# EAGLE library part 623326235321 (library Wurth_Elektronik_Electromechanic_Board_to_Board_Connectors_rev16a)
WR-PHD 1.27mm Dual SMT Socket Header H=2.20mm,Bottom Entry, 26 Pins=>Code : Con_BTB_SHD_1.27_2_623326235321 <http://katalog.we-online.de/media/thumbs2/eican/thb_Con_BTB_SHD_1.27_2_6233xx235321_pf2.jpg> Details see: http://katalog.we-online.de/en/em/623_3xx_235_321 Created 2014-06-04, Karrer Zheng 2014 (C) Würth Elektronik
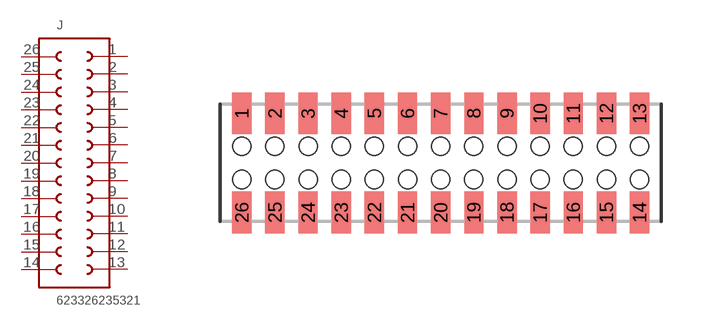
[diagram p314: symbol with the pads of 623326235321; footprint 623326235321]

Designator prefix J

## 623326235321  [623326235321]
1  1  pas
2  2  pas
3  3  pas
4  4  pas
5  5  pas
6  6  pas
7  7  pas
8  8  pas
9  9  pas
10  10  pas
11  11  pas
12  12  pas
13  13  pas
14  14  pas
15  15  pas
16  16  pas
17  17  pas
18  18  pas
19  19  pas
20  20  pas
21  21  pas
22  22  pas
23  23  pas
24  24  pas
25  25  pas
26  26  pas

## Footprint 623326235321 (pad centres in mm)
WR-PHD 1.27mm Dual SMT Socket Header H=2.20mm, Bottom Entry, 26 Pins
smd 0.74 x 1.6: 1 -7.62,1.9; 2 -6.35,1.9; 3 -5.08,1.9; 4 -3.81,1.9; 5 -2.54,1.9; 6 -1.27,1.9; 7 0,1.9; 8 1.27,1.9; 9 2.54,1.9; 10 3.81,1.9; 11 5.08,1.9; 12 6.35,1.9; 13 7.62,1.9; 14 7.62,-1.9; 15 6.35,-1.9; 16 5.08,-1.9; 17 3.81,-1.9; 18 2.54,-1.9; 19 1.27,-1.9; 20 0,-1.9; 21 -1.27,-1.9; 22 -2.54,-1.9; 23 -3.81,-1.9; 24 -5.08,-1.9; 25 -6.35,-1.9; 26 -7.62,-1.9
hole 0.7 at -7.62,0.635
hole 0.7 at -6.35,0.635
hole 0.7 at -5.08,0.635
hole 0.7 at -3.81,0.635
hole 0.7 at -2.54,0.635
hole 0.7 at -1.27,0.635
hole 0.7 at 0,0.635
hole 0.7 at 1.27,0.635
hole 0.7 at 2.54,0.635
hole 0.7 at 3.81,0.635
hole 0.7 at 5.08,0.635
hole 0.7 at 6.35,0.635
hole 0.7 at 7.62,0.635
hole 0.7 at -7.62,-0.635
hole 0.7 at -6.35,-0.635
hole 0.7 at -5.08,-0.635
hole 0.7 at -3.81,-0.635
hole 0.7 at -2.54,-0.635
hole 0.7 at -1.27,-0.635
hole 0.7 at 0,-0.635
hole 0.7 at 1.27,-0.635
hole 0.7 at 2.54,-0.635
hole 0.7 at 3.81,-0.635
hole 0.7 at 5.08,-0.635
hole 0.7 at 6.35,-0.635
hole 0.7 at 7.62,-0.635